# EAGLE library part PCA9633_16_CH_4_BIT_PWM-DRIVER (library MrSwirlyEyes)
4 bit I2C PWM MUX
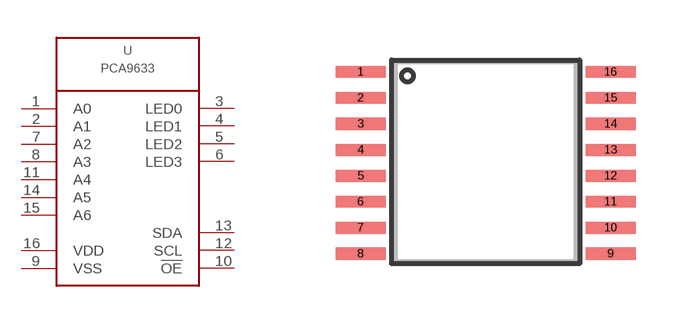
[diagram p6: symbol with the pads of TSSOP-16-DRIVER; footprint TSSOP-16-DRIVER]

Designator prefix U

## PCA9633_16_CH_4_BIT_PWM-DRIVER-16-PIN (CREATOR: Kenmei; DATASHEET: http://www.mouser.com/ds/2/302/PCA9633-1127691.pdf; DIST: Mouser; DISTLINK: https://www.digikey.com/products/en?keywords=771-PCA9633PW112%20; DISTPN: 771-PCA9633PW112; MFR: NXP Semiconductors; MPN: PCA9633PW,112; TESTED: NO; VALUE: PCA9633)  [TSSOP-16-DRIVER]
1  A0  in
2  A1  in
3  LED0  out
4  LED1  out
5  LED2  out
6  LED3  out
7  A2  in
8  A3  in
9  VSS  pwr
10  !OE!  in
11  A4  in
12  SCL
13  SDA
14  A5  in
15  A6  in
16  VDD  pwr

## Footprint TSSOP-16-DRIVER (pad centres in mm)
smd 1.25 x 0.3: 1 -2.875,2; 2 -2.875,1.35; 3 -2.875,0.7; 4 -2.875,0.05; 5 -2.875,-0.6; 6 -2.875,-1.25; 7 -2.875,-1.9; 8 -2.875,-2.55; 9 3.375,-2.55; 10 3.375,-1.9; 11 3.375,-1.25; 12 3.375,-0.6; 13 3.375,0.05; 14 3.375,0.7; 15 3.375,1.35; 16 3.375,2